# Altium schematic symbol library electrode_sq.SchLib: 1 symbol
Pins are listed as number, name and electrical type; pins without a type are passive.

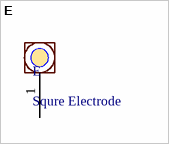
[diagram p0: symbol E]

## E
designator E, comment Squre Electrode
footprint E (Squre_Electrode)
pins: 1